# EAGLE library part M24C02 (library misc)
EEPROM Memory IC 2Kb (256 x 8) I²C 1MHz 450ns
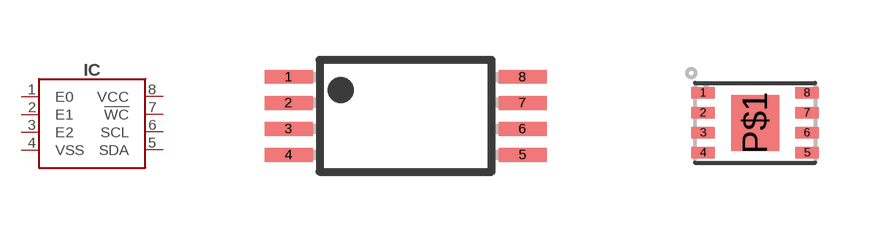
[diagram p72: symbol with the pads of TSSOP8; footprints TSSOP8, UFDFPN8]

Designator prefix IC

## M24C02-TSSOP8  [TSSOP8]
1  E0
2  E1
3  E2
4  VSS
5  SDA
6  SCL
7  !WC
8  VCC

## M24C02-WFDFPN8 (AEC-Q: AEC-Q100; DIGIKEY#: 497-15357-1-ND; MANF: STMicroelectronics; MANF#: M24C02-DRMF3TG/K)  [UFDFPN8]
1  E0
2  E1
3  E2
4  VSS
5  SDA
6  SCL
7  !WC
8  VCC
P$1  VSS

## Footprint TSSOP8 (pad centres in mm)
smd 1.2 x 0.35: 1 -2.925,0.975; 2 -2.925,0.325; 3 -2.925,-0.325; 4 -2.925,-0.975; 5 2.925,-0.975; 6 2.925,-0.325; 7 2.925,0.325; 8 2.925,0.975

## Footprint UFDFPN8 (pad centres in mm)
Datasheet <https://www.st.com/content/ccc/resource/technical/document/datasheet/b0/d8/50/40/5a/85/49/6f/DM00071904.pdf/files/DM00071904.pdf/jcr:content/translations/en.DM00071904.pdf> page 37 App note <https://www.st.com/resource/en/technical_note/dm00111135-description-of-ufdfpn5-ufdfpn8-and-wfdfpn8-for-stmicroelectronics-eeproms-and-recommendations-for-use-stmicroelectronics.pdf> page 15
smd 0.6 x 0.3: 1 -1.3,0.75; 2 -1.3,0.25; 3 -1.3,-0.25; 4 -1.3,-0.75; 5 1.3,-0.75; 6 1.3,-0.25; 7 1.3,0.25; 8 1.3,0.75
smd 1.2 x 1.4: P$1 0,0